# Altium footprint library Abracon_Oscillators.PcbLib: 1 footprints
Each footprint in its own frame and in the unit in brackets; x right, y up, seen from the top. Pads: shape width x height; smd on the part's side, far side on the other; paste and mask are expansions set on the pad; w line width, h text height; cw(c..) or ccw(c..) is an arc to the next point about the centre after c.
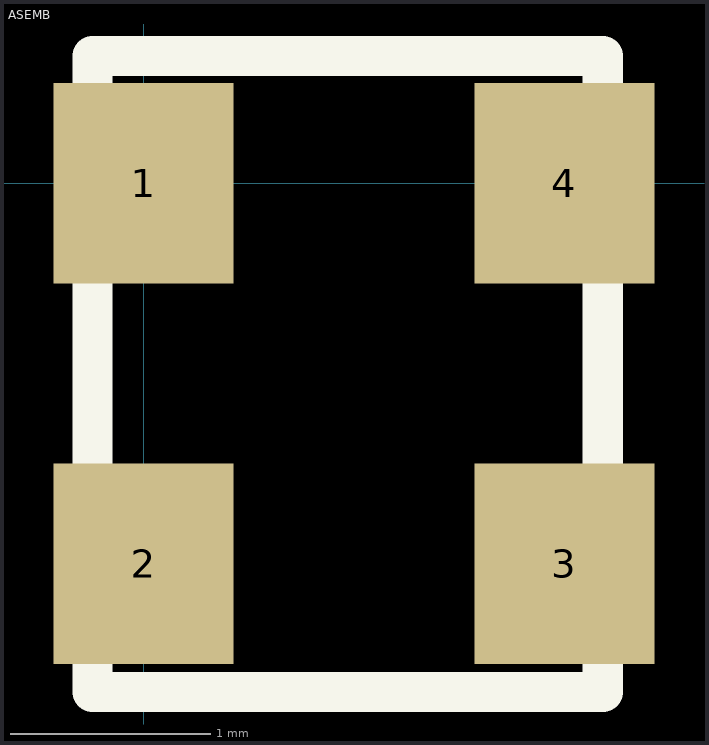
[diagram p0: the footprint, top view; thin cyan lines are the x and y axes]

## ASEMB [mm]
pads (4):
  rect 0.9x1 smd: 1(0,0) 2(0,-1.9) 3(2.1,-1.9) 4(2.1,0)
Top Overlay:
  lines w0.2: -0.254,-2.54 -0.254,0.635 2.291,0.635 2.291,-2.54 -0.254,-2.54
3D body "ASEMB.STEP": height 0.9, standoff -0.05, extent -0.259,-2.641 2.291,0.609